# EAGLE library part XBEE_SMD (library heatseek_hub_smd_lib)
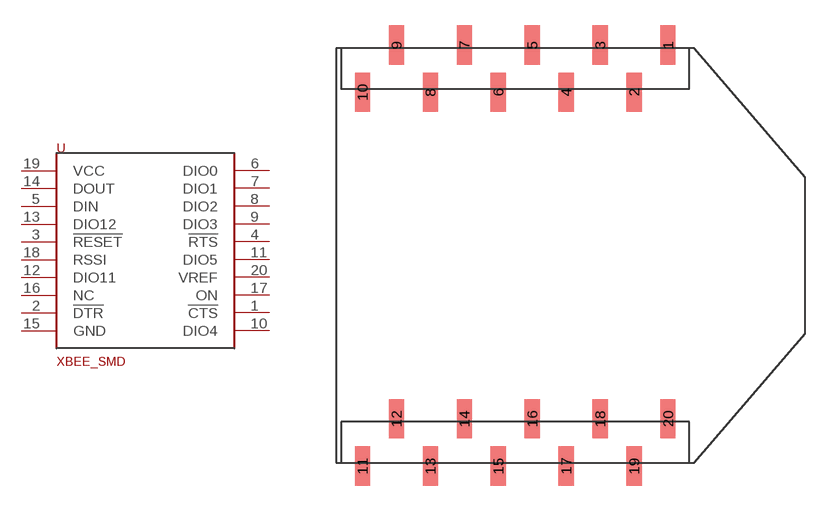
[diagram p1: symbol with the pads of CONN_HEADER_SMD_10X2; footprint CONN_HEADER_SMD_10X2]

Designator prefix -

## XBEE_SMDSMD  [CONN_HEADER_SMD_10X2]
1  !CTS
2  !DTR
3  !RESET
4  !RTS
5  DIN
6  DIO0
7  DIO1
8  DIO2
9  DIO3
10  DIO4
11  DIO5
12  DIO11
13  DIO12
14  DOUT
15  GND
16  NC
17  ON
18  RSSI
19  VCC
20  VREF

## Footprint CONN_HEADER_SMD_10X2 (pad centres in mm)
smd 0.89 x 2.3: 1 19.54,12.39; 2 17.54,9.61; 3 15.54,12.39; 4 13.54,9.61; 5 11.54,12.39; 6 9.54,9.61; 7 7.54,12.39; 8 5.54,9.61; 9 3.54,12.39; 10 1.54,9.61; 11 1.54,-12.39; 12 3.54,-9.61; 13 5.54,-12.39; 14 7.54,-9.61; 15 9.54,-12.39; 16 11.54,-9.61; 17 13.54,-12.39; 18 15.54,-9.61; 19 17.54,-12.39; 20 19.54,-9.61